# EAGLE library part ER-CON08HB-2 (library ER-CON08HB-2)
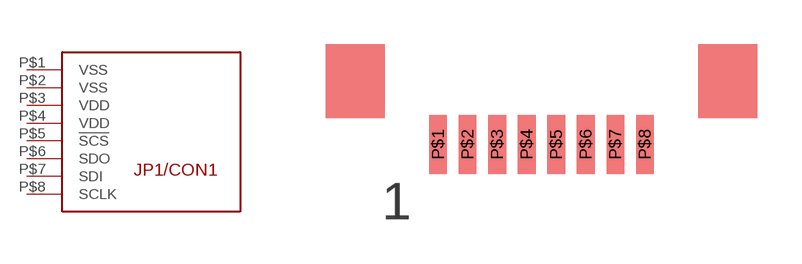
[diagram p0: symbol with the pads of ER-CON08HB-2; footprint ER-CON08HB-2]

Designator prefix -

## ER-CON08HB-2  [ER-CON08HB-2]
P$1  VSS
P$2  VSS
P$3  VDD
P$4  VDD
P$5  !SCS
P$6  SDO
P$7  SDI
P$8  SCLK

## Footprint ER-CON08HB-2 (pad centres in mm)
smd 0.6 x 2: P$1 0,0; P$2 1,0; P$3 2,0; P$4 3,0; P$5 4,0; P$6 5,0; P$7 6,0; P$8 7,0